# Altium integrated library 885012004001_Altium_WCAP-CSGP_rev24c.IntLib: 1002 symbols (part 8 of 21)
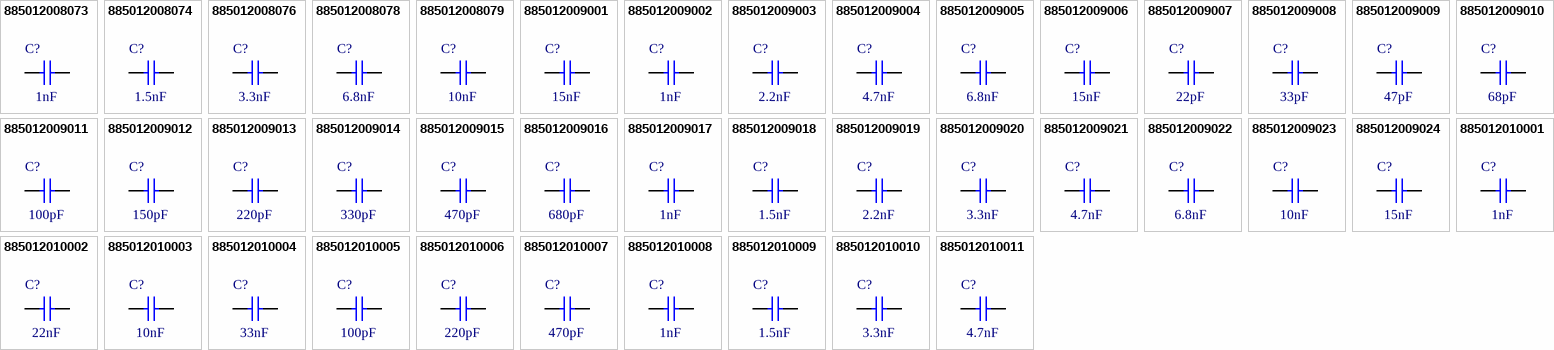
[diagram p32: symbols 885012008073 to 885012010011]

## 885012010001
designator C?, comment 1nF
WCAP-CSGP Multilayer Ceramic Chip Capacitor, General Purpose, size 1812, NP0, 1nF, 16V; Manufacturer Part Number: 885012010001; Manufacturer: Wurth Elektronik; Case/Size Code: 1812; Capacitance Tolerance: +/-5%; Insulation Resistance: 10GΩ; Q Factor: 1000; Technical Reference: NP01812102J016DFCT10000; Category: Multilayer Ceramic Chip Capacitors; Match Code: WCAP-CSGP; ComponentLink1Description: Website Link; ComponentLink1URL: https://www.we-online.com/redexpert/article/885012010001?ad; ComponentLink2Description: Datasheet Link; ComponentLink2URL: https://www.we-online.com/redexpert/spec/885012010001?ad; Mount: Surface Mount; Min Operating Temperature: -55°C; Max Operating Temperature: 125°C; Packaging: Tape and Reel; Length: 4.5mm; Width: 3.2mm; Height: 1.25mm; Capacitance: 1nF; Ceramic Type: NP0; Rated Voltage (DC): 16V
footprint WCAP-CSGP_1812_L4.5W3.2H1.25
simulation model 1812_885012010001_1nF
pins: 1, 2

## 885012010002
designator C?, comment 22nF
WCAP-CSGP Multilayer Ceramic Chip Capacitor, General Purpose, size 1812, NP0, 22nF, 16V; Manufacturer Part Number: 885012010002; Manufacturer: Wurth Elektronik; Case/Size Code: 1812; Capacitance Tolerance: +/-5%; Insulation Resistance: 10GΩ; Q Factor: 1000; Technical Reference: NP01812223J016DFCT10000; Category: Multilayer Ceramic Chip Capacitors; Match Code: WCAP-CSGP; ComponentLink1Description: Website Link; ComponentLink1URL: https://www.we-online.com/redexpert/article/885012010002?ad; ComponentLink2Description: Datasheet Link; ComponentLink2URL: https://www.we-online.com/redexpert/spec/885012010002?ad; Mount: Surface Mount; Min Operating Temperature: -55°C; Max Operating Temperature: 125°C; Packaging: Tape and Reel; Length: 4.5mm; Width: 3.2mm; Height: 1.25mm; Capacitance: 22nF; Ceramic Type: NP0; Rated Voltage (DC): 16V
footprint WCAP-CSGP_1812_L4.5W3.2H1.25
simulation model 1812_885012010002_22nF
pins: 1, 2

## 885012010003
designator C?, comment 10nF
WCAP-CSGP Multilayer Ceramic Chip Capacitor, General Purpose, size 1812, NP0, 10nF, 25V; Manufacturer Part Number: 885012010003; Manufacturer: Wurth Elektronik; Case/Size Code: 1812; Capacitance Tolerance: +/-5%; Insulation Resistance: 10GΩ; Q Factor: 1000; Technical Reference: NP01812103J025DFCT10000; Category: Multilayer Ceramic Chip Capacitors; Match Code: WCAP-CSGP; ComponentLink1Description: Website Link; ComponentLink1URL: https://www.we-online.com/redexpert/article/885012010003?ad; ComponentLink2Description: Datasheet Link; ComponentLink2URL: https://www.we-online.com/redexpert/spec/885012010003?ad; Mount: Surface Mount; Min Operating Temperature: -55°C; Max Operating Temperature: 125°C; Packaging: Tape and Reel; Length: 4.5mm; Width: 3.2mm; Height: 1.25mm; Capacitance: 10nF; Ceramic Type: NP0; Rated Voltage (DC): 25V
footprint WCAP-CSGP_1812_L4.5W3.2H1.25
simulation model 1812_885012010003_10nF
pins: 1, 2

## 885012010004
designator C?, comment 33nF
WCAP-CSGP Multilayer Ceramic Chip Capacitor, General Purpose, size 1812, NP0, 33nF, 25V; Manufacturer Part Number: 885012010004; Manufacturer: Wurth Elektronik; Case/Size Code: 1812; Capacitance Tolerance: +/-5%; Insulation Resistance: 10GΩ; Q Factor: 1000; Technical Reference: NP01812333J025DFCT10000; Category: Multilayer Ceramic Chip Capacitors; Match Code: WCAP-CSGP; ComponentLink1Description: Website Link; ComponentLink1URL: https://www.we-online.com/redexpert/article/885012010004?ad; ComponentLink2Description: Datasheet Link; ComponentLink2URL: https://www.we-online.com/redexpert/spec/885012010004?ad; Mount: Surface Mount; Min Operating Temperature: -55°C; Max Operating Temperature: 125°C; Packaging: Tape and Reel; Length: 4.5mm; Width: 3.2mm; Height: 1.25mm; Capacitance: 33nF; Ceramic Type: NP0; Rated Voltage (DC): 25V
footprint WCAP-CSGP_1812_L4.5W3.2H1.25
simulation model 1812_885012010004_33nF
pins: 1, 2

## 885012010005
designator C?, comment 100pF
WCAP-CSGP Multilayer Ceramic Chip Capacitor, General Purpose, size 1812, NP0, 100pF, 50V; Manufacturer Part Number: 885012010005; Manufacturer: Wurth Elektronik; Case/Size Code: 1812; Capacitance Tolerance: +/-5%; Insulation Resistance: 10GΩ; Q Factor: 1000; Technical Reference: NP01812101J050DFCT10000; Category: Multilayer Ceramic Chip Capacitors; Match Code: WCAP-CSGP; ComponentLink1Description: Website Link; ComponentLink1URL: https://www.we-online.com/redexpert/article/885012010005?ad; ComponentLink2Description: Datasheet Link; ComponentLink2URL: https://www.we-online.com/redexpert/spec/885012010005?ad; Mount: Surface Mount; Min Operating Temperature: -55°C; Max Operating Temperature: 125°C; Packaging: Tape and Reel; Length: 4.5mm; Width: 3.2mm; Height: 1.25mm; Capacitance: 100pF; Ceramic Type: NP0; Rated Voltage (DC): 50V
footprint WCAP-CSGP_1812_L4.5W3.2H1.25
simulation model 1812_885012010005_100pF
pins: 1, 2

## 885012010006
designator C?, comment 220pF
WCAP-CSGP Multilayer Ceramic Chip Capacitor, General Purpose, size 1812, NP0, 220pF, 50V; Manufacturer Part Number: 885012010006; Manufacturer: Wurth Elektronik; Case/Size Code: 1812; Capacitance Tolerance: +/-5%; Insulation Resistance: 10GΩ; Q Factor: 1000; Technical Reference: NP01812221J050DFCT10000; Category: Multilayer Ceramic Chip Capacitors; Match Code: WCAP-CSGP; ComponentLink1Description: Website Link; ComponentLink1URL: https://www.we-online.com/redexpert/article/885012010006?ad; ComponentLink2Description: Datasheet Link; ComponentLink2URL: https://www.we-online.com/redexpert/spec/885012010006?ad; Mount: Surface Mount; Min Operating Temperature: -55°C; Max Operating Temperature: 125°C; Packaging: Tape and Reel; Length: 4.5mm; Width: 3.2mm; Height: 1.25mm; Capacitance: 220pF; Ceramic Type: NP0; Rated Voltage (DC): 50V
footprint WCAP-CSGP_1812_L4.5W3.2H1.25
simulation model 1812_885012010006_220pF
pins: 1, 2

## 885012010007
designator C?, comment 470pF
WCAP-CSGP Multilayer Ceramic Chip Capacitor, General Purpose, size 1812, NP0, 470pF, 50V; Manufacturer Part Number: 885012010007; Manufacturer: Wurth Elektronik; Case/Size Code: 1812; Capacitance Tolerance: +/-5%; Insulation Resistance: 10GΩ; Q Factor: 1000; Technical Reference: NP01812471J050DFCT10000; Category: Multilayer Ceramic Chip Capacitors; Match Code: WCAP-CSGP; ComponentLink1Description: Website Link; ComponentLink1URL: https://www.we-online.com/redexpert/article/885012010007?ad; ComponentLink2Description: Datasheet Link; ComponentLink2URL: https://www.we-online.com/redexpert/spec/885012010007?ad; Mount: Surface Mount; Min Operating Temperature: -55°C; Max Operating Temperature: 125°C; Packaging: Tape and Reel; Length: 4.5mm; Width: 3.2mm; Height: 1.25mm; Capacitance: 470pF; Ceramic Type: NP0; Rated Voltage (DC): 50V
footprint WCAP-CSGP_1812_L4.5W3.2H1.25
simulation model 1812_885012010007_470pF
pins: 1, 2

## 885012010008
designator C?, comment 1nF
WCAP-CSGP Multilayer Ceramic Chip Capacitor, General Purpose, size 1812, NP0, 1nF, 50V; Manufacturer Part Number: 885012010008; Manufacturer: Wurth Elektronik; Case/Size Code: 1812; Capacitance Tolerance: +/-5%; Insulation Resistance: 10GΩ; Q Factor: 1000; Technical Reference: NP01812102J050DFCT10000; Category: Multilayer Ceramic Chip Capacitors; Match Code: WCAP-CSGP; ComponentLink1Description: Website Link; ComponentLink1URL: https://www.we-online.com/redexpert/article/885012010008?ad; ComponentLink2Description: Datasheet Link; ComponentLink2URL: https://www.we-online.com/redexpert/spec/885012010008?ad; Mount: Surface Mount; Min Operating Temperature: -55°C; Max Operating Temperature: 125°C; Packaging: Tape and Reel; Length: 4.5mm; Width: 3.2mm; Height: 1.25mm; Capacitance: 1nF; Ceramic Type: NP0; Rated Voltage (DC): 50V
footprint WCAP-CSGP_1812_L4.5W3.2H1.25
simulation model 1812_885012010008_1nF
pins: 1, 2

## 885012010009
designator C?, comment 1.5nF
WCAP-CSGP Multilayer Ceramic Chip Capacitor, General Purpose, size 1812, NP0, 1.5nF, 50V; Manufacturer Part Number: 885012010009; Manufacturer: Wurth Elektronik; Case/Size Code: 1812; Capacitance Tolerance: +/-5%; Insulation Resistance: 10GΩ; Q Factor: 1000; Technical Reference: NP01812152J050DFCT10000; Category: Multilayer Ceramic Chip Capacitors; Match Code: WCAP-CSGP; ComponentLink1Description: Website Link; ComponentLink1URL: https://www.we-online.com/redexpert/article/885012010009?ad; ComponentLink2Description: Datasheet Link; ComponentLink2URL: https://www.we-online.com/redexpert/spec/885012010009?ad; Mount: Surface Mount; Min Operating Temperature: -55°C; Max Operating Temperature: 125°C; Packaging: Tape and Reel; Length: 4.5mm; Width: 3.2mm; Height: 1.25mm; Capacitance: 1.5nF; Ceramic Type: NP0; Rated Voltage (DC): 50V
footprint WCAP-CSGP_1812_L4.5W3.2H1.25
simulation model 1812_885012010009_1.5nF
pins: 1, 2

## 885012010010
designator C?, comment 3.3nF
WCAP-CSGP Multilayer Ceramic Chip Capacitor, General Purpose, size 1812, NP0, 3.3nF, 50V; Manufacturer Part Number: 885012010010; Manufacturer: Wurth Elektronik; Case/Size Code: 1812; Capacitance Tolerance: +/-5%; Insulation Resistance: 10GΩ; Q Factor: 1000; Technical Reference: NP01812332J050DFCT10000; Category: Multilayer Ceramic Chip Capacitors; Match Code: WCAP-CSGP; ComponentLink1Description: Website Link; ComponentLink1URL: https://www.we-online.com/redexpert/article/885012010010?ad; ComponentLink2Description: Datasheet Link; ComponentLink2URL: https://www.we-online.com/redexpert/spec/885012010010?ad; Mount: Surface Mount; Min Operating Temperature: -55°C; Max Operating Temperature: 125°C; Packaging: Tape and Reel; Length: 4.5mm; Width: 3.2mm; Height: 1.25mm; Capacitance: 3.3nF; Ceramic Type: NP0; Rated Voltage (DC): 50V
footprint WCAP-CSGP_1812_L4.5W3.2H1.25
simulation model 1812_885012010010_3.3nF
pins: 1, 2

## 885012010011
designator C?, comment 4.7nF
WCAP-CSGP Multilayer Ceramic Chip Capacitor, General Purpose, size 1812, NP0, 4.7nF, 50V; Manufacturer Part Number: 885012010011; Manufacturer: Wurth Elektronik; Case/Size Code: 1812; Capacitance Tolerance: +/-5%; Insulation Resistance: 10GΩ; Q Factor: 1000; Technical Reference: NP01812472J050DFCT10000; Category: Multilayer Ceramic Chip Capacitors; Match Code: WCAP-CSGP; ComponentLink1Description: Website Link; ComponentLink1URL: https://www.we-online.com/redexpert/article/885012010011?ad; ComponentLink2Description: Datasheet Link; ComponentLink2URL: https://www.we-online.com/redexpert/spec/885012010011?ad; Mount: Surface Mount; Min Operating Temperature: -55°C; Max Operating Temperature: 125°C; Packaging: Tape and Reel; Length: 4.5mm; Width: 3.2mm; Height: 1.25mm; Capacitance: 4.7nF; Ceramic Type: NP0; Rated Voltage (DC): 50V
footprint WCAP-CSGP_1812_L4.5W3.2H1.25
simulation model 1812_885012010011_4.7nF
pins: 1, 2

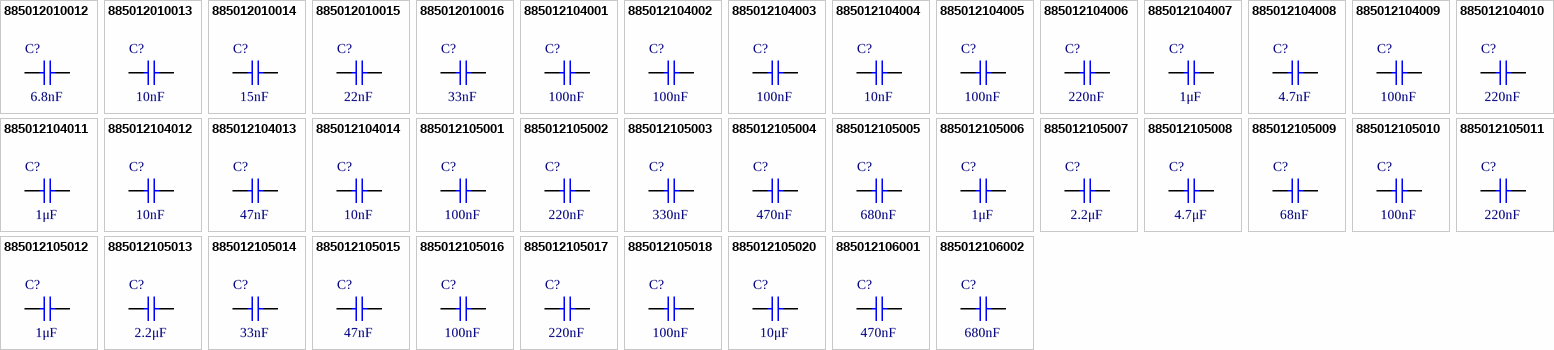
[diagram p9: symbols 885012010012 to 885012106002]

## 885012010012
designator C?, comment 6.8nF
WCAP-CSGP Multilayer Ceramic Chip Capacitor, General Purpose, size 1812, NP0, 6.8nF, 50V; Manufacturer Part Number: 885012010012; Manufacturer: Wurth Elektronik; Case/Size Code: 1812; Capacitance Tolerance: +/-5%; Insulation Resistance: 10GΩ; Q Factor: 1000; Technical Reference: NP01812682J050DFCT10000; Category: Multilayer Ceramic Chip Capacitors; Match Code: WCAP-CSGP; ComponentLink1Description: Website Link; ComponentLink1URL: https://www.we-online.com/redexpert/article/885012010012?ad; ComponentLink2Description: Datasheet Link; ComponentLink2URL: https://www.we-online.com/redexpert/spec/885012010012?ad; Mount: Surface Mount; Min Operating Temperature: -55°C; Max Operating Temperature: 125°C; Packaging: Tape and Reel; Length: 4.5mm; Width: 3.2mm; Height: 1.25mm; Capacitance: 6.8nF; Ceramic Type: NP0; Rated Voltage (DC): 50V
footprint WCAP-CSGP_1812_L4.5W3.2H1.25
simulation model 1812_885012010012_6.8nF
pins: 1, 2

## 885012010013
designator C?, comment 10nF
WCAP-CSGP Multilayer Ceramic Chip Capacitor, General Purpose, size 1812, NP0, 10nF, 50V; Manufacturer Part Number: 885012010013; Manufacturer: Wurth Elektronik; Case/Size Code: 1812; Capacitance Tolerance: +/-5%; Insulation Resistance: 10GΩ; Q Factor: 1000; Technical Reference: NP01812103J050DFCT10000; Category: Multilayer Ceramic Chip Capacitors; Match Code: WCAP-CSGP; ComponentLink1Description: Website Link; ComponentLink1URL: https://www.we-online.com/redexpert/article/885012010013?ad; ComponentLink2Description: Datasheet Link; ComponentLink2URL: https://www.we-online.com/redexpert/spec/885012010013?ad; Mount: Surface Mount; Min Operating Temperature: -55°C; Max Operating Temperature: 125°C; Packaging: Tape and Reel; Length: 4.5mm; Width: 3.2mm; Height: 1.25mm; Capacitance: 10nF; Ceramic Type: NP0; Rated Voltage (DC): 50V
footprint WCAP-CSGP_1812_L4.5W3.2H1.25
simulation model 1812_885012010013_10nF
pins: 1, 2

## 885012010014
designator C?, comment 15nF
WCAP-CSGP Multilayer Ceramic Chip Capacitor, General Purpose, size 1812, NP0, 15nF, 50V; Manufacturer Part Number: 885012010014; Manufacturer: Wurth Elektronik; Case/Size Code: 1812; Capacitance Tolerance: +/-5%; Insulation Resistance: 10GΩ; Q Factor: 1000; Technical Reference: NP01812153J050DFCT10000; Category: Multilayer Ceramic Chip Capacitors; Match Code: WCAP-CSGP; ComponentLink1Description: Website Link; ComponentLink1URL: https://www.we-online.com/redexpert/article/885012010014?ad; ComponentLink2Description: Datasheet Link; ComponentLink2URL: https://www.we-online.com/redexpert/spec/885012010014?ad; Mount: Surface Mount; Min Operating Temperature: -55°C; Max Operating Temperature: 125°C; Packaging: Tape and Reel; Length: 4.5mm; Width: 3.2mm; Height: 1.25mm; Capacitance: 15nF; Ceramic Type: NP0; Rated Voltage (DC): 50V
footprint WCAP-CSGP_1812_L4.5W3.2H1.25
simulation model 1812_885012010014_15nF
pins: 1, 2

## 885012010015
designator C?, comment 22nF
WCAP-CSGP Multilayer Ceramic Chip Capacitor, General Purpose, size 1812, NP0, 22nF, 50V; Manufacturer Part Number: 885012010015; Manufacturer: Wurth Elektronik; Case/Size Code: 1812; Capacitance Tolerance: +/-5%; Insulation Resistance: 10GΩ; Q Factor: 1000; Technical Reference: NP01812223J050DFCT10000; Category: Multilayer Ceramic Chip Capacitors; Match Code: WCAP-CSGP; ComponentLink1Description: Website Link; ComponentLink1URL: https://www.we-online.com/redexpert/article/885012010015?ad; ComponentLink2Description: Datasheet Link; ComponentLink2URL: https://www.we-online.com/redexpert/spec/885012010015?ad; Mount: Surface Mount; Min Operating Temperature: -55°C; Max Operating Temperature: 125°C; Packaging: Tape and Reel; Length: 4.5mm; Width: 3.2mm; Height: 1.25mm; Capacitance: 22nF; Ceramic Type: NP0; Rated Voltage (DC): 50V
footprint WCAP-CSGP_1812_L4.5W3.2H1.25
simulation model 1812_885012010015_22nF
pins: 1, 2

## 885012010016
designator C?, comment 33nF
WCAP-CSGP Multilayer Ceramic Chip Capacitor, General Purpose, size 1812, NP0, 33nF, 50V; Manufacturer Part Number: 885012010016; Manufacturer: Wurth Elektronik; Case/Size Code: 1812; Capacitance Tolerance: +/-5%; Insulation Resistance: 10GΩ; Q Factor: 1000; Technical Reference: NP01812333J050DFCT10000; Category: Multilayer Ceramic Chip Capacitors; Match Code: WCAP-CSGP; ComponentLink1Description: Website Link; ComponentLink1URL: https://www.we-online.com/redexpert/article/885012010016?ad; ComponentLink2Description: Datasheet Link; ComponentLink2URL: https://www.we-online.com/redexpert/spec/885012010016?ad; Mount: Surface Mount; Min Operating Temperature: -55°C; Max Operating Temperature: 125°C; Packaging: Tape and Reel; Length: 4.5mm; Width: 3.2mm; Height: 1.25mm; Capacitance: 33nF; Ceramic Type: NP0; Rated Voltage (DC): 50V
footprint WCAP-CSGP_1812_L4.5W3.2H1.25
simulation model 1812_885012010016_33nF
pins: 1, 2

## 885012104001
designator C?, comment 100nF
WCAP-CSGP Multilayer Ceramic Chip Capacitor, General Purpose, size 0201, X5R Class II, 100nF, 16V; Manufacturer Part Number: 885012104001; Manufacturer: Wurth Elektronik; Case/Size Code: 0201; Capacitance Tolerance: +/-10%; Dissipation Factor: 10%; Insulation Resistance: 1GΩ; Technical Reference: X5R0201104K016DFCT10000; Category: Multilayer Ceramic Chip Capacitors; Match Code: WCAP-CSGP; ComponentLink1Description: Website Link; ComponentLink1URL: https://www.we-online.com/redexpert/article/885012104001?ad; ComponentLink2Description: Datasheet Link; ComponentLink2URL: https://www.we-online.com/redexpert/spec/885012104001?ad; Mount: Surface Mount; Min Operating Temperature: -55°C; Max Operating Temperature: 85°C; Packaging: Tape and Reel; Length: 0.6mm; Width: 0.3mm; Height: 0.3mm; Capacitance: 100nF; Ceramic Type: X5R Class II; Rated Voltage (DC): 16V
footprint WCAP-CSGP_0201_L0.6W0.3H0.3
simulation model 0201_885012104001_100nF
pins: 1, 2

## 885012104002
designator C?, comment 100nF
WCAP-CSGP Multilayer Ceramic Chip Capacitor, General Purpose, size 0201, X5R Class II, 100nF, 10V; Manufacturer Part Number: 885012104002; Manufacturer: Wurth Elektronik; Case/Size Code: 0201; Capacitance Tolerance: +/-10%; Dissipation Factor: 15%; Insulation Resistance: 1GΩ; Technical Reference: X5R0201104K010DFCT10000; Category: Multilayer Ceramic Chip Capacitors; Match Code: WCAP-CSGP; ComponentLink1Description: Website Link; ComponentLink1URL: https://www.we-online.com/redexpert/article/885012104002?ad; ComponentLink2Description: Datasheet Link; ComponentLink2URL: https://www.we-online.com/redexpert/spec/885012104002?ad; Mount: Surface Mount; Min Operating Temperature: -55°C; Max Operating Temperature: 85°C; Packaging: Tape and Reel; Length: 0.6mm; Width: 0.3mm; Height: 0.3mm; Capacitance: 100nF; Ceramic Type: X5R Class II; Rated Voltage (DC): 10V
footprint WCAP-CSGP_0201_L0.6W0.3H0.3
simulation model 0201_885012104002_100nF
pins: 1, 2

## 885012104003
designator C?, comment 100nF
WCAP-CSGP Multilayer Ceramic Chip Capacitor, General Purpose, size 0201, X5R Class II, 100nF, 6.3V; Manufacturer Part Number: 885012104003; Manufacturer: Wurth Elektronik; Case/Size Code: 0201; Capacitance Tolerance: +/-20%; Dissipation Factor: 15%; Insulation Resistance: 0.5GΩ; Technical Reference: X5R0201104M6R3DFCT10000; Category: Multilayer Ceramic Chip Capacitors; Match Code: WCAP-CSGP; ComponentLink1Description: Website Link; ComponentLink1URL: https://www.we-online.com/redexpert/article/885012104003?ad; ComponentLink2Description: Datasheet Link; ComponentLink2URL: https://www.we-online.com/redexpert/spec/885012104003?ad; Mount: Surface Mount; Min Operating Temperature: -55°C; Max Operating Temperature: 85°C; Packaging: Tape and Reel; Length: 0.6mm; Width: 0.3mm; Height: 0.3mm; Capacitance: 100nF; Ceramic Type: X5R Class II; Rated Voltage (DC): 6.3V
footprint WCAP-CSGP_0201_L0.6W0.3H0.3
simulation model 0201_885012104003_100nF
pins: 1, 2

## 885012104004
designator C?, comment 10nF
WCAP-CSGP Multilayer Ceramic Chip Capacitor, General Purpose, size 0201, X5R Class II, 10nF, 6.3V; Manufacturer Part Number: 885012104004; Manufacturer: Wurth Elektronik; Case/Size Code: 0201; Capacitance Tolerance: +/-20%; Dissipation Factor: 10%; Insulation Resistance: 10GΩ; Technical Reference: X5R0201103M6R3DFCT10000; Category: Multilayer Ceramic Chip Capacitors; Match Code: WCAP-CSGP; ComponentLink1Description: Website Link; ComponentLink1URL: https://www.we-online.com/redexpert/article/885012104004?ad; ComponentLink2Description: Datasheet Link; ComponentLink2URL: https://www.we-online.com/redexpert/spec/885012104004?ad; Mount: Surface Mount; Min Operating Temperature: -55°C; Max Operating Temperature: 85°C; Packaging: Tape and Reel; Length: 0.6mm; Width: 0.3mm; Height: 0.3mm; Capacitance: 10nF; Ceramic Type: X5R Class II; Rated Voltage (DC): 6.3V
footprint WCAP-CSGP_0201_L0.6W0.3H0.3
simulation model 0201_885012104004_10nF
pins: 1, 2

## 885012104005
designator C?, comment 100nF
WCAP-CSGP Multilayer Ceramic Chip Capacitor, General Purpose, size 0201, X5R Class II, 100nF, 25V; Manufacturer Part Number: 885012104005; Manufacturer: Wurth Elektronik; Case/Size Code: 0201; Capacitance Tolerance: +/-10%; Dissipation Factor: 10%; Insulation Resistance: 0.5GΩ; Technical Reference: X5R0201104K025DFCT10000; Category: Multilayer Ceramic Chip Capacitors; Match Code: WCAP-CSGP; ComponentLink1Description: Website Link; ComponentLink1URL: https://www.we-online.com/redexpert/article/885012104005?ad; ComponentLink2Description: Datasheet Link; ComponentLink2URL: https://www.we-online.com/redexpert/spec/885012104005?ad; Mount: Surface Mount; Min Operating Temperature: -55°C; Max Operating Temperature: 85°C; Packaging: Tape and Reel; Length: 0.6mm; Width: 0.3mm; Height: 0.3mm; Capacitance: 100nF; Ceramic Type: X5R Class II; Rated Voltage (DC): 25V
footprint WCAP-CSGP_0201_L0.6W0.3H0.3
simulation model 0201_885012104005_100nF
pins: 1, 2

## 885012104006
designator C?, comment 220nF
WCAP-CSGP Multilayer Ceramic Chip Capacitor, General Purpose, size 0201, X5R Class II, 220nF, 10V; Manufacturer Part Number: 885012104006; Manufacturer: Wurth Elektronik; Case/Size Code: 0201; Capacitance Tolerance: +/-10%; Dissipation Factor: 15%; Insulation Resistance: 0.2GΩ; Technical Reference: X5R0201224K010DFCT10000; Category: Multilayer Ceramic Chip Capacitors; Match Code: WCAP-CSGP; ComponentLink1Description: Website Link; ComponentLink1URL: https://www.we-online.com/redexpert/article/885012104006?ad; ComponentLink2Description: Datasheet Link; ComponentLink2URL: https://www.we-online.com/redexpert/spec/885012104006?ad; Mount: Surface Mount; Min Operating Temperature: -55°C; Max Operating Temperature: 85°C; Packaging: Tape and Reel; Length: 0.6mm; Width: 0.3mm; Height: 0.3mm; Capacitance: 220nF; Ceramic Type: X5R Class II; Rated Voltage (DC): 10V
footprint WCAP-CSGP_0201_L0.6W0.3H0.3
simulation model 0201_885012104006_220nF
pins: 1, 2

## 885012104007
designator C?, comment 1μF
WCAP-CSGP Multilayer Ceramic Chip Capacitor, General Purpose, size 0201, X5R Class II, 1μF, 16V; Manufacturer Part Number: 885012104007; Manufacturer: Wurth Elektronik; Case/Size Code: 0201; Capacitance Tolerance: +/-20%; Dissipation Factor: 20%; Insulation Resistance: 0.05GΩ; Technical Reference: X5R0201105M016DFCT10000; Category: Multilayer Ceramic Chip Capacitors; Match Code: WCAP-CSGP; ComponentLink1Description: Website Link; ComponentLink1URL: https://www.we-online.com/redexpert/article/885012104007?ad; ComponentLink2Description: Datasheet Link; ComponentLink2URL: https://www.we-online.com/redexpert/spec/885012104007?ad; Mount: Surface Mount; Min Operating Temperature: -55°C; Max Operating Temperature: 85°C; Packaging: Tape and Reel; Length: 0.6mm; Width: 0.3mm; Height: 0.3mm; Capacitance: 1μF; Ceramic Type: X5R Class II; Rated Voltage (DC): 16V
footprint WCAP-CSGP_0201_L0.6W0.3H0.3
simulation model 0201_885012104007_1uF
pins: 1, 2

## 885012104008
designator C?, comment 4.7nF
WCAP-CSGP Multilayer Ceramic Chip Capacitor, General Purpose, size 0201, X5R Class II, 4.7nF, 25V; Manufacturer Part Number: 885012104008; Manufacturer: Wurth Elektronik; Case/Size Code: 0201; Capacitance Tolerance: +/-10%; Dissipation Factor: 3.5%; Insulation Resistance: 10GΩ; Technical Reference: X5R0201472K025DFCT10000; Category: Multilayer Ceramic Chip Capacitors; Match Code: WCAP-CSGP; ComponentLink1Description: Website Link; ComponentLink1URL: https://www.we-online.com/redexpert/article/885012104008?ad; ComponentLink2Description: Datasheet Link; ComponentLink2URL: https://www.we-online.com/redexpert/spec/885012104008?ad; Mount: Surface Mount; Min Operating Temperature: -55°C; Max Operating Temperature: 85°C; Packaging: Tape and Reel; Length: 0.6mm; Width: 0.3mm; Height: 0.3mm; Capacitance: 4.7nF; Ceramic Type: X5R Class II; Rated Voltage (DC): 25V
footprint WCAP-CSGP_0201_L0.6W0.3H0.3
simulation model 0201_885012104008_4.7nF
pins: 1, 2

## 885012104009
designator C?, comment 100nF
WCAP-CSGP Multilayer Ceramic Chip Capacitor, General Purpose, size 0201, X5R Class II, 100nF, 6.3V; Manufacturer Part Number: 885012104009; Manufacturer: Wurth Elektronik; Case/Size Code: 0201; Capacitance Tolerance: +/-10%; Dissipation Factor: 10%; Insulation Resistance: 0.5GΩ; Technical Reference: X5R0201104K6R3DFCT10000; Category: Multilayer Ceramic Chip Capacitors; Match Code: WCAP-CSGP; ComponentLink1Description: Website Link; ComponentLink1URL: https://www.we-online.com/redexpert/article/885012104009?ad; ComponentLink2Description: Datasheet Link; ComponentLink2URL: https://www.we-online.com/redexpert/spec/885012104009?ad; Mount: Surface Mount; Min Operating Temperature: -55°C; Max Operating Temperature: 85°C; Packaging: Tape and Reel; Length: 0.6mm; Width: 0.3mm; Height: 0.3mm; Capacitance: 100nF; Ceramic Type: X5R Class II; Rated Voltage (DC): 6.3V
footprint WCAP-CSGP_0201_L0.6W0.3H0.3
simulation model 0201_885012104009_100nF
pins: 1, 2

## 885012104010
designator C?, comment 220nF
WCAP-CSGP Multilayer Ceramic Chip Capacitor, General Purpose, size 0201, X5R Class II, 220nF, 6.3V; Manufacturer Part Number: 885012104010; Manufacturer: Wurth Elektronik; Case/Size Code: 0201; Capacitance Tolerance: +/-10%; Dissipation Factor: 15%; Insulation Resistance: 0.2GΩ; Technical Reference: X5R0201224K6R3DFCT10000; Category: Multilayer Ceramic Chip Capacitors; Match Code: WCAP-CSGP; ComponentLink1Description: Website Link; ComponentLink1URL: https://www.we-online.com/redexpert/article/885012104010?ad; ComponentLink2Description: Datasheet Link; ComponentLink2URL: https://www.we-online.com/redexpert/spec/885012104010?ad; Mount: Surface Mount; Min Operating Temperature: -55°C; Max Operating Temperature: 85°C; Packaging: Tape and Reel; Length: 0.6mm; Width: 0.3mm; Height: 0.3mm; Capacitance: 220nF; Ceramic Type: X5R Class II; Rated Voltage (DC): 6.3V
footprint WCAP-CSGP_0201_L0.6W0.3H0.3
simulation model 0201_885012104010_220nF
pins: 1, 2

## 885012104011
designator C?, comment 1μF
WCAP-CSGP Multilayer Ceramic Chip Capacitor, General Purpose, size 0201, X5R Class II, 1μF, 6.3V; Manufacturer Part Number: 885012104011; Manufacturer: Wurth Elektronik; Case/Size Code: 0201; Capacitance Tolerance: +/-20%; Dissipation Factor: 15%; Insulation Resistance: 0.05GΩ; Technical Reference: X5R0201105M6R3DFCT10000; Category: Multilayer Ceramic Chip Capacitors; Match Code: WCAP-CSGP; ComponentLink1Description: Website Link; ComponentLink1URL: https://www.we-online.com/redexpert/article/885012104011?ad; ComponentLink2Description: Datasheet Link; ComponentLink2URL: https://www.we-online.com/redexpert/spec/885012104011?ad; Mount: Surface Mount; Min Operating Temperature: -55°C; Max Operating Temperature: 85°C; Packaging: Tape and Reel; Length: 0.6mm; Width: 0.3mm; Height: 0.3mm; Capacitance: 1μF; Ceramic Type: X5R Class II; Rated Voltage (DC): 6.3V
footprint WCAP-CSGP_0201_L0.6W0.3H0.3
simulation model 0201_885012104011_1uF
pins: 1, 2

## 885012104012
designator C?, comment 10nF
WCAP-CSGP Multilayer Ceramic Chip Capacitor, General Purpose, size 0201, X5R Class II, 10nF, 10V; Manufacturer Part Number: 885012104012; Manufacturer: Wurth Elektronik; Case/Size Code: 0201; Capacitance Tolerance: +/-10%; Dissipation Factor: 5%; Insulation Resistance: 10GΩ; Technical Reference: X5R0201103K010DFCT10000; Category: Multilayer Ceramic Chip Capacitors; Match Code: WCAP-CSGP; ComponentLink1Description: Website Link; ComponentLink1URL: https://www.we-online.com/redexpert/article/885012104012?ad; ComponentLink2Description: Datasheet Link; ComponentLink2URL: https://www.we-online.com/redexpert/spec/885012104012?ad; Mount: Surface Mount; Min Operating Temperature: -55°C; Max Operating Temperature: 85°C; Packaging: Tape and Reel; Length: 0.6mm; Width: 0.3mm; Height: 0.3mm; Capacitance: 10nF; Ceramic Type: X5R Class II; Rated Voltage (DC): 10V
footprint WCAP-CSGP_0201_L0.6W0.3H0.3
simulation model 0201_885012104012_10nF
pins: 1, 2

## 885012104013
designator C?, comment 47nF
WCAP-CSGP Multilayer Ceramic Chip Capacitor, General Purpose, size 0201, X5R Class II, 47nF, 10V; Manufacturer Part Number: 885012104013; Manufacturer: Wurth Elektronik; Case/Size Code: 0201; Capacitance Tolerance: +/-10%; Dissipation Factor: 10%; Insulation Resistance: 2GΩ; Technical Reference: X5R0201473K010DFCT10000; Category: Multilayer Ceramic Chip Capacitors; Match Code: WCAP-CSGP; ComponentLink1Description: Website Link; ComponentLink1URL: https://www.we-online.com/redexpert/article/885012104013?ad; ComponentLink2Description: Datasheet Link; ComponentLink2URL: https://www.we-online.com/redexpert/spec/885012104013?ad; Mount: Surface Mount; Min Operating Temperature: -55°C; Max Operating Temperature: 85°C; Packaging: Tape and Reel; Length: 0.6mm; Width: 0.3mm; Height: 0.3mm; Capacitance: 47nF; Ceramic Type: X5R Class II; Rated Voltage (DC): 10V
footprint WCAP-CSGP_0201_L0.6W0.3H0.3
simulation model 0201_885012104013_47nF
pins: 1, 2

## 885012104014
designator C?, comment 10nF
WCAP-CSGP Multilayer Ceramic Chip Capacitor, General Purpose, size 0201, X5R Class II, 10nF, 25V; Manufacturer Part Number: 885012104014; Manufacturer: Wurth Elektronik; Case/Size Code: 0201; Capacitance Tolerance: +/-10%; Dissipation Factor: 5%; Insulation Resistance: 10GΩ; Technical Reference: X5R0201103K025DFCT10000; Category: Multilayer Ceramic Chip Capacitors; Match Code: WCAP-CSGP; ComponentLink1Description: Website Link; ComponentLink1URL: https://www.we-online.com/redexpert/article/885012104014?ad; ComponentLink2Description: Datasheet Link; ComponentLink2URL: https://www.we-online.com/redexpert/spec/885012104014?ad; Mount: Surface Mount; Min Operating Temperature: -55°C; Max Operating Temperature: 85°C; Packaging: Tape and Reel; Length: 0.6mm; Width: 0.3mm; Height: 0.3mm; Capacitance: 10nF; Ceramic Type: X5R Class II; Rated Voltage (DC): 25V
footprint WCAP-CSGP_0201_L0.6W0.3H0.3
simulation model 0201_885012104014_10nF
pins: 1, 2

## 885012105001
designator C?, comment 100nF
WCAP-CSGP Multilayer Ceramic Chip Capacitor, General Purpose, size 0402, X5R, 100nF, 6.3V; Manufacturer Part Number: 885012105001; Manufacturer: Wurth Elektronik; Case/Size Code: 0402; Capacitance Tolerance: +/-20%; Dissipation Factor: 10%; Insulation Resistance: 1GΩ; Technical Reference: X5R0402104M6R3DFCT10000; Category: Multilayer Ceramic Chip Capacitors; Match Code: WCAP-CSGP; ComponentLink1Description: Website Link; ComponentLink1URL: https://www.we-online.com/redexpert/article/885012105001?ad; ComponentLink2Description: Datasheet Link; ComponentLink2URL: https://www.we-online.com/redexpert/spec/885012105001?ad; Mount: Surface Mount; Min Operating Temperature: -55°C; Max Operating Temperature: 85°C; Packaging: Tape and Reel; Length: 1mm; Width: 0.5mm; Height: 0.5mm; Capacitance: 100nF; Ceramic Type: X5R; Rated Voltage (DC): 6.3V
footprint WCAP-CSGP_0402_L1W0.5H0.5
pins: 1, 2

## 885012105002
designator C?, comment 220nF
WCAP-CSGP Multilayer Ceramic Chip Capacitor, General Purpose, size 0402, X5R, 220nF, 6.3V; Manufacturer Part Number: 885012105002; Manufacturer: Wurth Elektronik; Case/Size Code: 0402; Capacitance Tolerance: +/-20%; Dissipation Factor: 10%; Insulation Resistance: 0.5GΩ; Technical Reference: X5R0402224M6R3DFCT10000; Category: Multilayer Ceramic Chip Capacitors; Match Code: WCAP-CSGP; ComponentLink1Description: Website Link; ComponentLink1URL: https://www.we-online.com/redexpert/article/885012105002?ad; ComponentLink2Description: Datasheet Link; ComponentLink2URL: https://www.we-online.com/redexpert/spec/885012105002?ad; Mount: Surface Mount; Min Operating Temperature: -55°C; Max Operating Temperature: 85°C; Packaging: Tape and Reel; Length: 1mm; Width: 0.5mm; Height: 0.5mm; Capacitance: 220nF; Ceramic Type: X5R; Rated Voltage (DC): 6.3V
footprint WCAP-CSGP_0402_L1W0.5H0.5
pins: 1, 2

## 885012105003
designator C?, comment 330nF
WCAP-CSGP Multilayer Ceramic Chip Capacitor, General Purpose, size 0402, X5R, 330nF, 6.3V; Manufacturer Part Number: 885012105003; Manufacturer: Wurth Elektronik; Case/Size Code: 0402; Capacitance Tolerance: +/-20%; Dissipation Factor: 10%; Insulation Resistance: 0.3GΩ; Technical Reference: X5R0402334M6R3DFCT10000; Category: Multilayer Ceramic Chip Capacitors; Match Code: WCAP-CSGP; ComponentLink1Description: Website Link; ComponentLink1URL: https://www.we-online.com/redexpert/article/885012105003?ad; ComponentLink2Description: Datasheet Link; ComponentLink2URL: https://www.we-online.com/redexpert/spec/885012105003?ad; Mount: Surface Mount; Min Operating Temperature: -55°C; Max Operating Temperature: 85°C; Packaging: Tape and Reel; Length: 1mm; Width: 0.5mm; Height: 0.5mm; Capacitance: 330nF; Ceramic Type: X5R; Rated Voltage (DC): 6.3V
footprint WCAP-CSGP_0402_L1W0.5H0.5
pins: 1, 2

## 885012105004
designator C?, comment 470nF
WCAP-CSGP Multilayer Ceramic Chip Capacitor, General Purpose, size 0402, X5R, 470nF, 6.3V; Manufacturer Part Number: 885012105004; Manufacturer: Wurth Elektronik; Case/Size Code: 0402; Capacitance Tolerance: +/-20%; Dissipation Factor: 10%; Insulation Resistance: 0.2GΩ; Technical Reference: X5R0402474M6R3DFCT10000; Category: Multilayer Ceramic Chip Capacitors; Match Code: WCAP-CSGP; ComponentLink1Description: Website Link; ComponentLink1URL: https://www.we-online.com/redexpert/article/885012105004?ad; ComponentLink2Description: Datasheet Link; ComponentLink2URL: https://www.we-online.com/redexpert/spec/885012105004?ad; Mount: Surface Mount; Min Operating Temperature: -55°C; Max Operating Temperature: 85°C; Packaging: Tape and Reel; Length: 1mm; Width: 0.5mm; Height: 0.5mm; Capacitance: 470nF; Ceramic Type: X5R; Rated Voltage (DC): 6.3V
footprint WCAP-CSGP_0402_L1W0.5H0.5
simulation model 0402_885012105004_470nF
pins: 1, 2

## 885012105005
designator C?, comment 680nF
WCAP-CSGP Multilayer Ceramic Chip Capacitor, General Purpose, size 0402, X5R, 680nF, 6.3V; Manufacturer Part Number: 885012105005; Manufacturer: Wurth Elektronik; Case/Size Code: 0402; Capacitance Tolerance: +/-20%; Dissipation Factor: 10%; Insulation Resistance: 0.2GΩ; Technical Reference: X5R0402684M6R3DFCT10000; Category: Multilayer Ceramic Chip Capacitors; Match Code: WCAP-CSGP; ComponentLink1Description: Website Link; ComponentLink1URL: https://www.we-online.com/redexpert/article/885012105005?ad; ComponentLink2Description: Datasheet Link; ComponentLink2URL: https://www.we-online.com/redexpert/spec/885012105005?ad; Mount: Surface Mount; Min Operating Temperature: -55°C; Max Operating Temperature: 85°C; Packaging: Tape and Reel; Length: 1mm; Width: 0.5mm; Height: 0.5mm; Capacitance: 680nF; Ceramic Type: X5R; Rated Voltage (DC): 6.3V
footprint WCAP-CSGP_0402_L1W0.5H0.5
simulation model 0402_885012105005_680nF
pins: 1, 2

## 885012105006
designator C?, comment 1μF
WCAP-CSGP Multilayer Ceramic Chip Capacitor, General Purpose, size 0402, X5R, 1μF, 6.3V; Manufacturer Part Number: 885012105006; Manufacturer: Wurth Elektronik; Case/Size Code: 0402; Capacitance Tolerance: +/-20%; Dissipation Factor: 15%; Insulation Resistance: 0.1GΩ; Technical Reference: X5R0402105M6R3DFCT10000; Category: Multilayer Ceramic Chip Capacitors; Match Code: WCAP-CSGP; ComponentLink1Description: Website Link; ComponentLink1URL: https://www.we-online.com/redexpert/article/885012105006?ad; ComponentLink2Description: Datasheet Link; ComponentLink2URL: https://www.we-online.com/redexpert/spec/885012105006?ad; Mount: Surface Mount; Min Operating Temperature: -55°C; Max Operating Temperature: 85°C; Packaging: Tape and Reel; Length: 1mm; Width: 0.5mm; Height: 0.5mm; Capacitance: 1μF; Ceramic Type: X5R; Rated Voltage (DC): 6.3V
footprint WCAP-CSGP_0402_L1W0.5H0.5
simulation model 0402_885012105006_1uF
pins: 1, 2

## 885012105007
designator C?, comment 2.2μF
WCAP-CSGP Multilayer Ceramic Chip Capacitor, General Purpose, size 0402, X5R, 2.2μF, 6.3V; Manufacturer Part Number: 885012105007; Manufacturer: Wurth Elektronik; Case/Size Code: 0402; Capacitance Tolerance: +/-20%; Dissipation Factor: 20%; Insulation Resistance: 0.02GΩ; Technical Reference: X5R0402225M6R3DFCT10000; Category: Multilayer Ceramic Chip Capacitors; Match Code: WCAP-CSGP; ComponentLink1Description: Website Link; ComponentLink1URL: https://www.we-online.com/redexpert/article/885012105007?ad; ComponentLink2Description: Datasheet Link; ComponentLink2URL: https://www.we-online.com/redexpert/spec/885012105007?ad; Mount: Surface Mount; Min Operating Temperature: -55°C; Max Operating Temperature: 85°C; Packaging: Tape and Reel; Length: 1mm; Width: 0.5mm; Height: 0.5mm; Capacitance: 2.2μF; Ceramic Type: X5R; Rated Voltage (DC): 6.3V
footprint WCAP-CSGP_0402_L1W0.5H0.5
simulation model 0402_885012105007_2.2uF
pins: 1, 2

## 885012105008
designator C?, comment 4.7μF
WCAP-CSGP Multilayer Ceramic Chip Capacitor, General Purpose, size 0402, X5R, 4.7μF, 6.3V; Manufacturer Part Number: 885012105008; Manufacturer: Wurth Elektronik; Case/Size Code: 0402; Capacitance Tolerance: +/-20%; Dissipation Factor: 20%; Insulation Resistance: 0.01GΩ; Technical Reference: X5R0402475M6R3DFCT10000; Category: Multilayer Ceramic Chip Capacitors; Match Code: WCAP-CSGP; ComponentLink1Description: Website Link; ComponentLink1URL: https://www.we-online.com/redexpert/article/885012105008?ad; ComponentLink2Description: Datasheet Link; ComponentLink2URL: https://www.we-online.com/redexpert/spec/885012105008?ad; Mount: Surface Mount; Min Operating Temperature: -55°C; Max Operating Temperature: 85°C; Packaging: Tape and Reel; Length: 1mm; Width: 0.5mm; Height: 0.5mm; Capacitance: 4.7μF; Ceramic Type: X5R; Rated Voltage (DC): 6.3V
footprint WCAP-CSGP_0402_L1W0.5H0.5
simulation model 0402_885012105008_4.7uF
pins: 1, 2

## 885012105009
designator C?, comment 68nF
WCAP-CSGP Multilayer Ceramic Chip Capacitor, General Purpose, size 0402, X5R, 68nF, 10V; Manufacturer Part Number: 885012105009; Manufacturer: Wurth Elektronik; Case/Size Code: 0402; Capacitance Tolerance: +/-20%; Dissipation Factor: 5%; Insulation Resistance: 7.4GΩ; Technical Reference: X5R0402683M010DFCT10000; Category: Multilayer Ceramic Chip Capacitors; Match Code: WCAP-CSGP; ComponentLink1Description: Website Link; ComponentLink1URL: https://www.we-online.com/redexpert/article/885012105009?ad; ComponentLink2Description: Datasheet Link; ComponentLink2URL: https://www.we-online.com/redexpert/spec/885012105009?ad; Mount: Surface Mount; Min Operating Temperature: -55°C; Max Operating Temperature: 85°C; Packaging: Tape and Reel; Length: 1mm; Width: 0.5mm; Height: 0.5mm; Capacitance: 68nF; Ceramic Type: X5R; Rated Voltage (DC): 10V
footprint WCAP-CSGP_0402_L1W0.5H0.5
simulation model 0402_885012105009_68nF
pins: 1, 2

## 885012105010
designator C?, comment 100nF
WCAP-CSGP Multilayer Ceramic Chip Capacitor, General Purpose, size 0402, X5R, 100nF, 10V; Manufacturer Part Number: 885012105010; Manufacturer: Wurth Elektronik; Case/Size Code: 0402; Capacitance Tolerance: +/-20%; Dissipation Factor: 5%; Insulation Resistance: 5GΩ; Technical Reference: X5R0402104M010DFCT10000; Category: Multilayer Ceramic Chip Capacitors; Match Code: WCAP-CSGP; ComponentLink1Description: Website Link; ComponentLink1URL: https://www.we-online.com/redexpert/article/885012105010?ad; ComponentLink2Description: Datasheet Link; ComponentLink2URL: https://www.we-online.com/redexpert/spec/885012105010?ad; Mount: Surface Mount; Min Operating Temperature: -55°C; Max Operating Temperature: 85°C; Packaging: Tape and Reel; Length: 1mm; Width: 0.5mm; Height: 0.5mm; Capacitance: 100nF; Ceramic Type: X5R; Rated Voltage (DC): 10V
footprint WCAP-CSGP_0402_L1W0.5H0.5
simulation model 0402_885012105010_100nF
pins: 1, 2

## 885012105011
designator C?, comment 220nF
WCAP-CSGP Multilayer Ceramic Chip Capacitor, General Purpose, size 0402, X5R, 220nF, 10V; Manufacturer Part Number: 885012105011; Manufacturer: Wurth Elektronik; Case/Size Code: 0402; Capacitance Tolerance: +/-20%; Dissipation Factor: 5%; Insulation Resistance: 2.3GΩ; Technical Reference: X5R0402224M010DFCT10000; Category: Multilayer Ceramic Chip Capacitors; Match Code: WCAP-CSGP; ComponentLink1Description: Website Link; ComponentLink1URL: https://www.we-online.com/redexpert/article/885012105011?ad; ComponentLink2Description: Datasheet Link; ComponentLink2URL: https://www.we-online.com/redexpert/spec/885012105011?ad; Mount: Surface Mount; Min Operating Temperature: -55°C; Max Operating Temperature: 85°C; Packaging: Tape and Reel; Length: 1mm; Width: 0.5mm; Height: 0.5mm; Capacitance: 220nF; Ceramic Type: X5R; Rated Voltage (DC): 10V
footprint WCAP-CSGP_0402_L1W0.5H0.5
simulation model 0402_885012105011_220nF
pins: 1, 2

## 885012105012
designator C?, comment 1μF
WCAP-CSGP Multilayer Ceramic Chip Capacitor, General Purpose, size 0402, X5R, 1μF, 10V; Manufacturer Part Number: 885012105012; Manufacturer: Wurth Elektronik; Case/Size Code: 0402; Capacitance Tolerance: +/-20%; Dissipation Factor: 15%; Insulation Resistance: 0.05GΩ; Technical Reference: X5R0402105M010DFCT10000; Category: Multilayer Ceramic Chip Capacitors; Match Code: WCAP-CSGP; ComponentLink1Description: Website Link; ComponentLink1URL: https://www.we-online.com/redexpert/article/885012105012?ad; ComponentLink2Description: Datasheet Link; ComponentLink2URL: https://www.we-online.com/redexpert/spec/885012105012?ad; Mount: Surface Mount; Min Operating Temperature: -55°C; Max Operating Temperature: 85°C; Packaging: Tape and Reel; Length: 1mm; Width: 0.5mm; Height: 0.5mm; Capacitance: 1μF; Ceramic Type: X5R; Rated Voltage (DC): 10V
footprint WCAP-CSGP_0402_L1W0.5H0.5
simulation model 0402_885012105012_1uF
pins: 1, 2

## 885012105013
designator C?, comment 2.2μF
WCAP-CSGP Multilayer Ceramic Chip Capacitor, General Purpose, size 0402, X5R, 2.2μF, 10V; Manufacturer Part Number: 885012105013; Manufacturer: Wurth Elektronik; Case/Size Code: 0402; Capacitance Tolerance: +/-20%; Dissipation Factor: 10%; Insulation Resistance: 0.05GΩ; Technical Reference: X5R0402225M010DFCT10000; Category: Multilayer Ceramic Chip Capacitors; Match Code: WCAP-CSGP; ComponentLink1Description: Website Link; ComponentLink1URL: https://www.we-online.com/redexpert/article/885012105013?ad; ComponentLink2Description: Datasheet Link; ComponentLink2URL: https://www.we-online.com/redexpert/spec/885012105013?ad; Mount: Surface Mount; Min Operating Temperature: -55°C; Max Operating Temperature: 85°C; Packaging: Tape and Reel; Length: 1mm; Width: 0.5mm; Height: 0.5mm; Capacitance: 2.2μF; Ceramic Type: X5R; Rated Voltage (DC): 10V
footprint WCAP-CSGP_0402_L1W0.5H0.5
simulation model 0402_885012105013_2.2uF
pins: 1, 2

## 885012105014
designator C?, comment 33nF
WCAP-CSGP Multilayer Ceramic Chip Capacitor, General Purpose, size 0402, X5R, 33nF, 16V; Manufacturer Part Number: 885012105014; Manufacturer: Wurth Elektronik; Case/Size Code: 0402; Capacitance Tolerance: +/-20%; Dissipation Factor: 5%; Insulation Resistance: 10GΩ; Technical Reference: X5R0402333M016DFCT10000; Category: Multilayer Ceramic Chip Capacitors; Match Code: WCAP-CSGP; ComponentLink1Description: Website Link; ComponentLink1URL: https://www.we-online.com/redexpert/article/885012105014?ad; ComponentLink2Description: Datasheet Link; ComponentLink2URL: https://www.we-online.com/redexpert/spec/885012105014?ad; Mount: Surface Mount; Min Operating Temperature: -55°C; Max Operating Temperature: 85°C; Packaging: Tape and Reel; Length: 1mm; Width: 0.5mm; Height: 0.5mm; Capacitance: 33nF; Ceramic Type: X5R; Rated Voltage (DC): 16V
footprint WCAP-CSGP_0402_L1W0.5H0.5
simulation model 0402_885012105014_33nF
pins: 1, 2

## 885012105015
designator C?, comment 47nF
WCAP-CSGP Multilayer Ceramic Chip Capacitor, General Purpose, size 0402, X5R, 47nF, 16V; Manufacturer Part Number: 885012105015; Manufacturer: Wurth Elektronik; Case/Size Code: 0402; Capacitance Tolerance: +/-20%; Dissipation Factor: 5%; Insulation Resistance: 10GΩ; Technical Reference: X5R0402473M016DFCT10000; Category: Multilayer Ceramic Chip Capacitors; Match Code: WCAP-CSGP; ComponentLink1Description: Website Link; ComponentLink1URL: https://www.we-online.com/redexpert/article/885012105015?ad; ComponentLink2Description: Datasheet Link; ComponentLink2URL: https://www.we-online.com/redexpert/spec/885012105015?ad; Mount: Surface Mount; Min Operating Temperature: -55°C; Max Operating Temperature: 85°C; Packaging: Tape and Reel; Length: 1mm; Width: 0.5mm; Height: 0.5mm; Capacitance: 47nF; Ceramic Type: X5R; Rated Voltage (DC): 16V
footprint WCAP-CSGP_0402_L1W0.5H0.5
simulation model 0402_885012105015_47nF
pins: 1, 2

## 885012105016
designator C?, comment 100nF
WCAP-CSGP Multilayer Ceramic Chip Capacitor, General Purpose, size 0402, X5R, 100nF, 16V; Manufacturer Part Number: 885012105016; Manufacturer: Wurth Elektronik; Case/Size Code: 0402; Capacitance Tolerance: +/-20%; Dissipation Factor: 5%; Insulation Resistance: 5GΩ; Technical Reference: X5R0402104M016DFCT10000; Category: Multilayer Ceramic Chip Capacitors; Match Code: WCAP-CSGP; ComponentLink1Description: Website Link; ComponentLink1URL: https://www.we-online.com/redexpert/article/885012105016?ad; ComponentLink2Description: Datasheet Link; ComponentLink2URL: https://www.we-online.com/redexpert/spec/885012105016?ad; Mount: Surface Mount; Min Operating Temperature: -55°C; Max Operating Temperature: 85°C; Packaging: Tape and Reel; Length: 1mm; Width: 0.5mm; Height: 0.5mm; Capacitance: 100nF; Ceramic Type: X5R; Rated Voltage (DC): 16V
footprint WCAP-CSGP_0402_L1W0.5H0.5
simulation model 0402_885012105016_100nF
pins: 1, 2

## 885012105017
designator C?, comment 220nF
WCAP-CSGP Multilayer Ceramic Chip Capacitor, General Purpose, size 0402, X5R, 220nF, 16V; Manufacturer Part Number: 885012105017; Manufacturer: Wurth Elektronik; Case/Size Code: 0402; Capacitance Tolerance: +/-20%; Dissipation Factor: 10%; Insulation Resistance: 0.5GΩ; Technical Reference: X5R0402224M016DFCT10000; Category: Multilayer Ceramic Chip Capacitors; Match Code: WCAP-CSGP; ComponentLink1Description: Website Link; ComponentLink1URL: https://www.we-online.com/redexpert/article/885012105017?ad; ComponentLink2Description: Datasheet Link; ComponentLink2URL: https://www.we-online.com/redexpert/spec/885012105017?ad; Mount: Surface Mount; Min Operating Temperature: -55°C; Max Operating Temperature: 85°C; Packaging: Tape and Reel; Length: 1mm; Width: 0.5mm; Height: 0.5mm; Capacitance: 220nF; Ceramic Type: X5R; Rated Voltage (DC): 16V
footprint WCAP-CSGP_0402_L1W0.5H0.5
simulation model 0402_885012105017_220nF
pins: 1, 2

## 885012105018
designator C?, comment 100nF
WCAP-CSGP Multilayer Ceramic Chip Capacitor, General Purpose, size 0402, X5R, 100nF, 25V; Manufacturer Part Number: 885012105018; Manufacturer: Wurth Elektronik; Case/Size Code: 0402; Capacitance Tolerance: +/-20%; Dissipation Factor: 10%; Insulation Resistance: 5GΩ; Technical Reference: X5R0402104M025DFCT10000; Category: Multilayer Ceramic Chip Capacitors; Match Code: WCAP-CSGP; ComponentLink1Description: Website Link; ComponentLink1URL: https://www.we-online.com/redexpert/article/885012105018?ad; ComponentLink2Description: Datasheet Link; ComponentLink2URL: https://www.we-online.com/redexpert/spec/885012105018?ad; Mount: Surface Mount; Min Operating Temperature: -55°C; Max Operating Temperature: 85°C; Packaging: Tape and Reel; Length: 1mm; Width: 0.5mm; Height: 0.5mm; Capacitance: 100nF; Ceramic Type: X5R; Rated Voltage (DC): 25V
footprint WCAP-CSGP_0402_L1W0.5H0.5
simulation model 0402_885012105018_100nF
pins: 1, 2

## 885012105020
designator C?, comment 10μF
WCAP-CSGP Multilayer Ceramic Chip Capacitor, General Purpose, size 0402, X5R, 10μF, 6.3V; Manufacturer Part Number: 885012105020; Manufacturer: Wurth Elektronik; Case/Size Code: 0402; Capacitance Tolerance: +/20%; Dissipation Factor: 10%; Insulation Resistance: 0.01GΩ; Technical Reference: X5R0402106M6R3DFCT10000; Category: Multilayer Ceramic Chip Capacitors; Match Code: WCAP-CSGP; ComponentLink1Description: Website Link; ComponentLink1URL: https://www.we-online.com/redexpert/article/885012105020?ad; ComponentLink2Description: Datasheet Link; ComponentLink2URL: https://www.we-online.com/redexpert/spec/885012105020?ad; Mount: Surface Mount; Min Operating Temperature: -55°C; Max Operating Temperature: 85°C; Packaging: Tape and Reel; Length: 1mm; Width: 0.5mm; Height: 0.5mm; Capacitance: 10μF; Ceramic Type: X5R; Rated Voltage (DC): 6.3V
footprint WCAP-CSGP_0402_L1W0.5H0.5
simulation model 0402_885012105020_10uF
pins: 1, 2

## 885012106001
designator C?, comment 470nF
WCAP-CSGP Multilayer Ceramic Chip Capacitor, General Purpose, size 0603, X5R, 470nF, 6.3V; Manufacturer Part Number: 885012106001; Manufacturer: Wurth Elektronik; Case/Size Code: 0603; Capacitance Tolerance: +/-20%; Dissipation Factor: 10%; Insulation Resistance: 0.2GΩ; Technical Reference: X5R0603474M6R3DFCT10000; Category: Multilayer Ceramic Chip Capacitors; Match Code: WCAP-CSGP; ComponentLink1Description: Website Link; ComponentLink1URL: https://www.we-online.com/redexpert/article/885012106001?ad; ComponentLink2Description: Datasheet Link; ComponentLink2URL: https://www.we-online.com/redexpert/spec/885012106001?ad; Mount: Surface Mount; Min Operating Temperature: -55°C; Max Operating Temperature: 85°C; Packaging: Tape and Reel; Length: 1.6mm; Width: 0.8mm; Height: 0.8mm; Capacitance: 470nF; Ceramic Type: X5R; Rated Voltage (DC): 6.3V
footprint WCAP-CSGP_0603_L1.6W0.8H0.8_Reflow
footprint WCAP-CSGP_0603_L1.6W0.8H0.8_Wave
simulation model 0603_885012106001_470nF
pins: 1, 2